# Altium footprint library TransistorsTHD.PcbLib: 14 footprints
Each footprint in its own frame and in the unit in brackets; x right, y up, seen from the top. Pads: shape width x height; smd on the part's side, far side on the other; paste and mask are expansions set on the pad; w line width, h text height; cw(c..) or ccw(c..) is an arc to the next point about the centre after c.
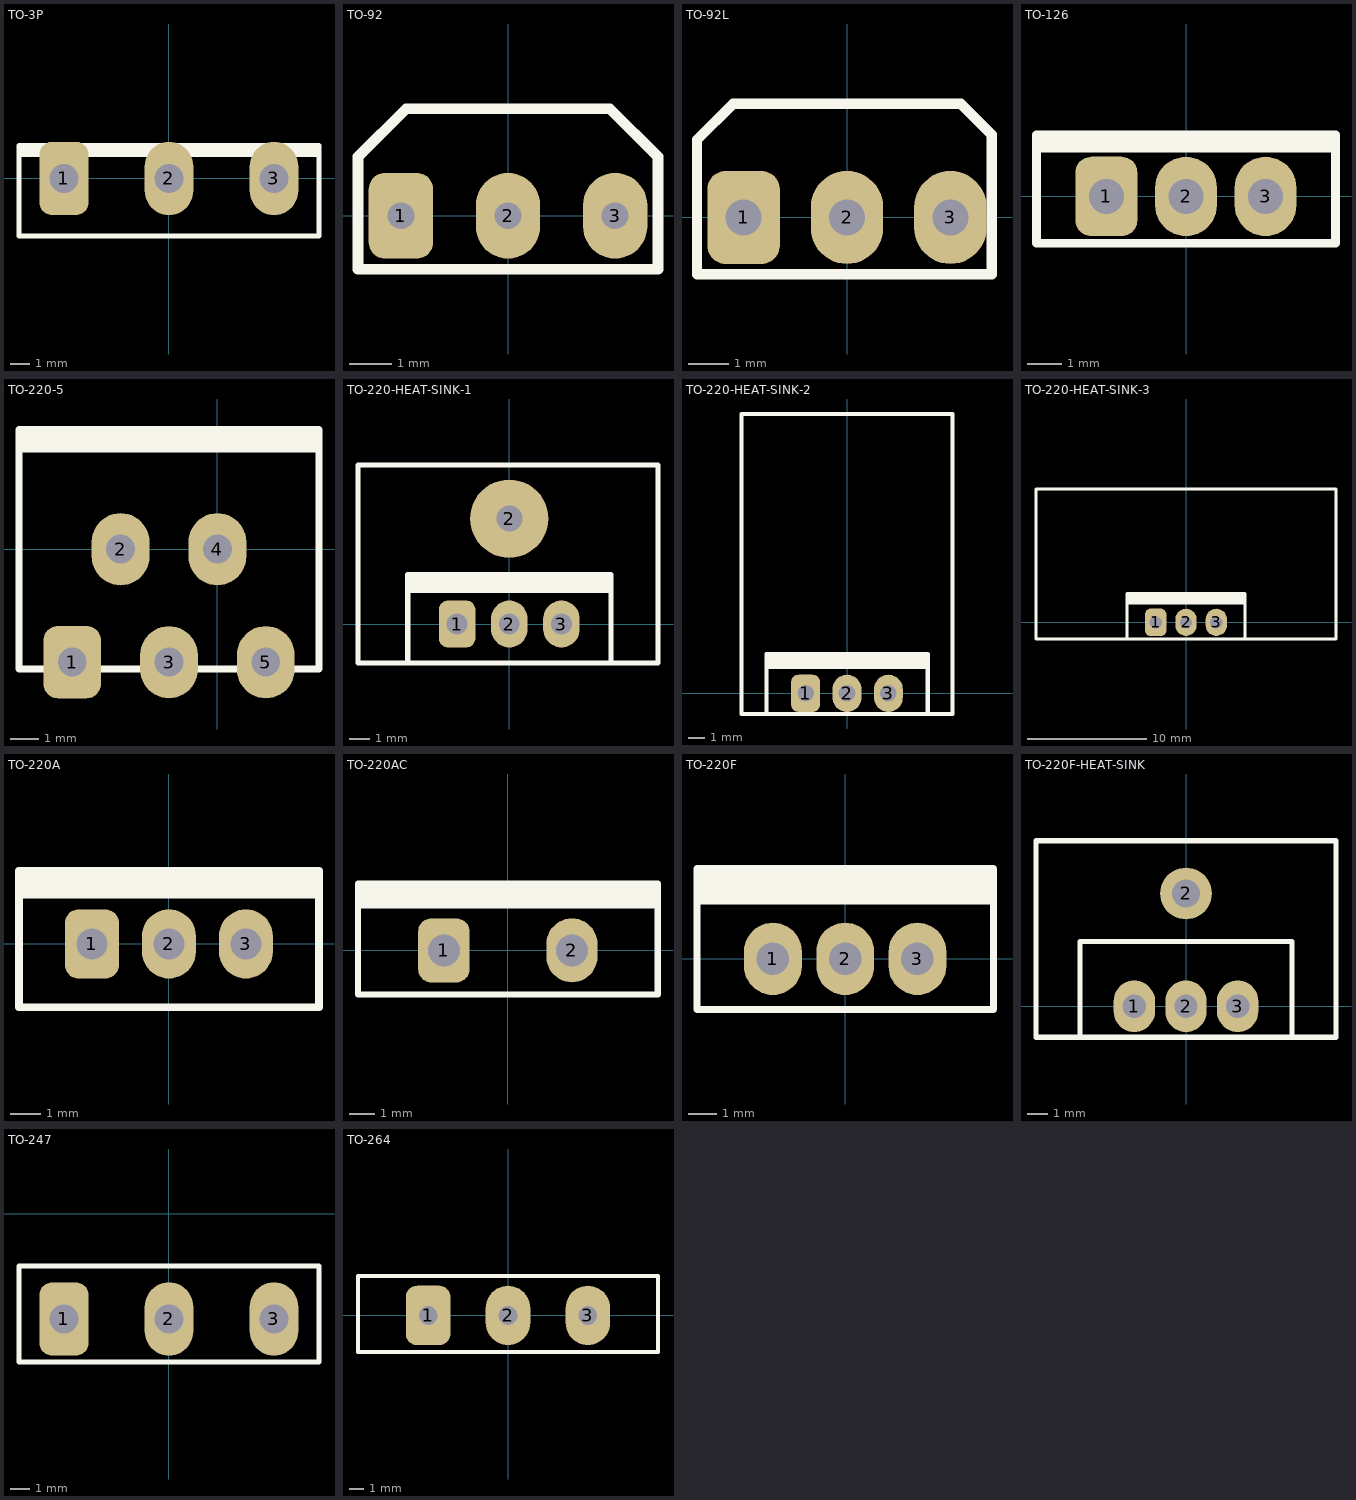
[diagram p0: the footprints below, top view; thin cyan lines are the x and y axes]

## TO-3P [mil]
pads (3):
  rrect50% 100x150 hole 60: 1(-214.96,0)
  oval 100x150 hole 60: 2(0,0) 3(214.96,0)
Top Overlay:
  rectangle: -307.08,43.7 307.09,67.32
  lines w10: -307.08,-118.11 307.09,-118.11 307.09,67.32 -307.08,67.32 -307.08,-118.11
3D body "User Library-Fairchild_TO-3P.STEP": height 1019.68, standoff -551.18, extent -307.08,-118.11 307.09,67.32

## TO-92 [mil]
pads (3):
  rrect50% 60x80 hole 25: 1(-100,0)
  oval 60x80 hole 25: 2(0,0) 3(100,0)
Top Overlay:
  lines w10: -140,-50 -140,55 -95,100 95,100 140,55 140,-50 -140,-50
3D body "TO92.STEP": height 319.29, standoff -243.7, extent -107.09,-33.07 107.08,92.91

## TO-92L [mil]
pads (3):
  rrect50% 70x90 hole 35: 1(-100,0)
  oval 70x90 hole 35: 2(0,0) 3(100,0)
Top Overlay:
  lines w10: -145,-55 -145,75 -110,110 110,110 140,80 140,-55 -145,-55
3D body "TO-92L.STEP": height 484.96, standoff -290.63, extent -109.84,-48.23 109.85,107.29

## TO-126 [mil]
pads (3):
  rrect50% 70x90 hole 40: 1(-90.16,0)
  oval 70x90 hole 40: 2(0,0) 3(90.16,0)
Top Overlay:
  rectangle: -170,50 170,70
  lines w10: -169.29,-53.15 -169.29,70 169.3,70 169.3,-53.15 -169.29,-53.15
3D body "TO-126_factory.stp": height 622.05, standoff -354.33, extent -169.29,-53.15 169.3,55.12

## TO-220-5 [mil]
pads (5):
  rrect50% 80x100 hole 40: 1(-200.79,-156.3)
  oval 80x100 hole 40: 2(-133.86,0) 3(-66.93,-156.3) 4(0,0) 5(66.93,-156.3)
Top Overlay:
  rectangle: -274.41,133.86 140.55,165.36
  lines w10: -274.41,-165.74 -274.41,165.36 140.55,165.36 140.55,-165.74 -258.27,-165.74 -274.41,-165.74
3D body "JEDEC_TO-220-5-V_INTERSIL_MDP0028.STEP": height 812.01, standoff -132.87, extent -274.41,-165.74 140.55,165.36

## TO-220-HEAT-SINK-1 [mil]
pads (4):
  rrect50% 70x90 hole 40: 1(-100,0)
  oval 70x90 hole 40: 2(0,0) 3(100,0)
  round 150 hole 50: 2(0,202)
Top Overlay:
  rectangle: -194.76,59.06 195,95
  lines w10: -194.76,-75 -194.76,95 195,95 195,-75 ; -290,-75 285,-75 285,305 -290,305 -290,-75
3D body "TO220_Assembly_3pin.STEP": height 790.84, standoff -357.19, extent -288.49,-73.86 286.32,304.1

## TO-220-HEAT-SINK-2 [mil]
pads (3):
  rrect50% 70x90 hole 40: 1(-100,0)
  oval 70x90 hole 40: 2(0,0) 3(100,0)
Top Overlay:
  rectangle: -194.76,59.06 195,95
  lines w10: -194.76,-50 -194.76,95 195,95 195,-50 ; -255,-50 -255,675 255,675 255,-50 -255,-50
3D body "Heatsink TO-220.stp": height 846.46, standoff -157.48, extent -255.9,-50 255.9,676.58

## TO-220-HEAT-SINK-3 [mil]
pads (3):
  rrect50% 70x90 hole 40: 1(-100,0)
  oval 70x90 hole 40: 2(0,0) 3(100,0)
Top Overlay:
  rectangle: -194.76,59.06 195,95
  lines w10: -194.76,-55 -194.76,95 195,95 195,-55 ; -495,-55 495,-55 495,440 -495,440 -495,-55
3D body "Heatsink TO-220 28x25x8mm.stp": height 1102.99, standoff -117.48, extent -492.12,-50.98 492.13,438.98

## TO-220A [mil]
pads (3):
  rrect50% 70x90 hole 40: 1(-100,0)
  oval 70x90 hole 40: 2(0,0) 3(100,0)
Top Overlay:
  rectangle: -194.76,59.06 195,95
  lines w10: -194.76,-82.17 195,-82.17 195,95 -194.76,95 -194.76,-82.17
3D body "User Library-TO-220-1.STEP": height 810.24, standoff -322.83, extent -194.76,-82.17 195,95

## TO-220AC [mil]
pads (2):
  rrect50% 80x100 hole 50: 1(-100,0)
  oval 80x100 hole 50: 2(100,0)
Top Overlay:
  rectangle: -233.93,64.96 234.25,104.34
  lines w10: -233.93,-68.89 -233.93,104.34 233.95,104.34 233.95,-68.89 -233.93,-68.89
3D body "TO-220 2pins long V1.stp": height 752.23, standoff -428.48, extent -233.93,-68.89 233.95,104.34

## TO-220F [mil]
pads (3):
  oval 80x100 hole 45: 1(-100,0) 2(0,0) 3(100,0)
Top Overlay:
  rectangle: -205,75 210,125
  lines w10: -205,-70 -205,125 205,125 205,-70 -205,-70
3D body "TO-220F.stp": height 759.84, standoff -372.05, extent -203.93,-70.86 203.94,122.05

## TO-220F-HEAT-SINK [mil]
pads (4):
  oval 80x100 hole 45: 1(-100,0) 2(0,0) 3(100,0)
  round 100 hole 55: 2(0,218)
Top Overlay:
  lines w10: -290,-60 290,-60 290,320 -290,320 -290,-60 ; -205,-60 205,-60 205,125 -205,125 -205,-60
3D body "TO-220F.stp": height 759.84, standoff -372.05, extent -203.93,-70.86 203.94,122.05
3D body "TO220_Heat_sink.STEP": height 790, standoff -154.88, extent -287.4,-57.95 287.4,320

## TO-247 [mm]
pads (3):
  rrect50% 2.54x3.81 hole 1.524: 1(-5.46,-5.46)
  oval 2.54x3.81 hole 1.524: 2(0,-5.46) 3(5.46,-5.46)
Top Overlay:
  lines w0.254: -7.8,-7.7 7.8,-7.7 7.8,-2.7 -7.8,-2.7 -7.8,-7.7
3D body "TO-247_factory.stp": height 27.3, standoff -15.4, extent -7.8,-7.7 7.8,-2.7

## TO-264 [mil]
pads (3):
  rrect50% 120x160 hole 50: 1(-215,0)
  oval 120x160 hole 50: 2(0,0) 3(215,0)
Top Overlay:
  lines w10: -403.54,-98.43 403.54,-98.43 403.54,106.3 -403.54,106.3 -403.54,-98.43
3D body "User Library-to264.STEP": height 1249, standoff -561.2, extent -403.54,-98.43 403.54,106.3